# Altium schematic symbol library Resistors.SchLib: 2 symbols
Pins are listed as number, name and electrical type; pins without a type are passive.

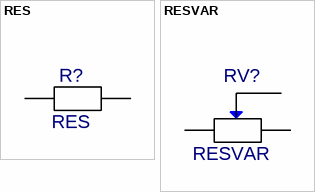
[diagram p0: symbols RES to RESVAR]

## RES
designator R?
Value: *
footprint RES
pins: 1, 2

## RESVAR
designator RV?
Value: *
footprint RESVAR
pins: 1, 2, 3